# EAGLE library part LDU2430S700 (library rti)
LED DRIVER, 28VDC, 20W
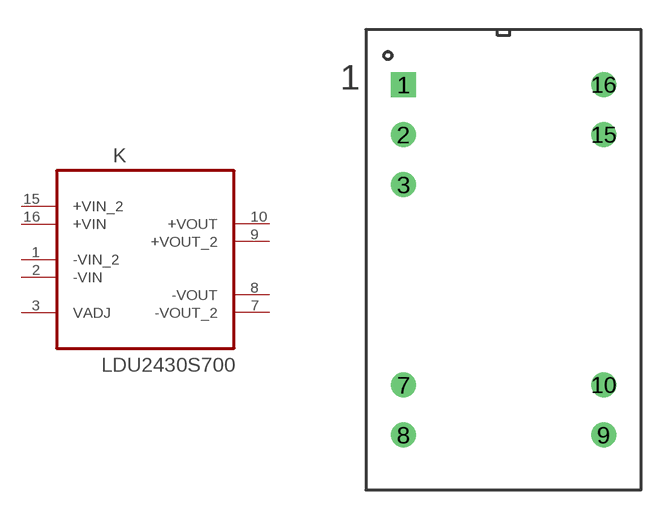
[diagram p0: symbol with the pads of RELAY_LDU2430S700; footprint RELAY_LDU2430S700]

Designator prefix K

## LDU2430S700 (DESCRIPTION: DC/DC, LED DRIVER; MPN: LDU2430S700; OC_FARNELL: 1738295; OC_NEWARK: 52R2666; SUPPLIER: XP POWER)  [RELAY_LDU2430S700]
1  -VIN_2  pas
2  -VIN  pas
3  VADJ  pas
7  -VOUT_2  pas
8  -VOUT  pas
9  +VOUT_2  pas
10  +VOUT  pas
15  +VIN_2  pas
16  +VIN  pas

## Footprint RELAY_LDU2430S700 (pad centres in mm)
drill 0.762 pad 1.27 square: 1 -5.08,8.89
drill 0.762 pad 1.27: 2 -5.08,6.35; 3 -5.08,3.81; 7 -5.08,-6.35; 8 -5.08,-8.89; 9 5.08,-8.89; 10 5.08,-6.35; 15 5.08,6.35; 16 5.08,8.89